# EAGLE library part POLOLU_STEP_UP_DOWN (library BOOSTER)
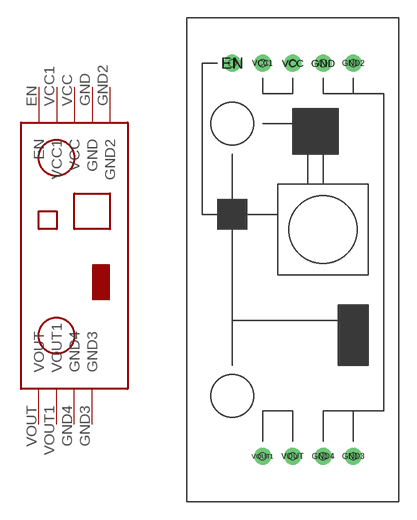
[diagram p0: symbol with the pads of POLOLU_STEP_UP_DOWN; footprint POLOLU_STEP_UP_DOWN]

Designator prefix -

## POLOLU_STEP_UP_DOWN  [POLOLU_STEP_UP_DOWN]
EN  EN
GND  GND
GND2  GND2
GND3  GND3
GND4  GND4
VCC  VCC
VCC1  VCC1
VOUT  VOUT
VOUT1  VOUT1

## Footprint POLOLU_STEP_UP_DOWN (pad centres in mm)
drill 0.8 pad 1.422: EN -17.78,6.35; GND -10.16,6.35; GND2 -7.62,6.35; GND3 -7.62,-26.67; GND4 -10.16,-26.67; VCC -12.7,6.35; VCC1 -15.24,6.35; VOUT -12.7,-26.67; VOUT1 -15.24,-26.67
hole 0.6 at -17.78,6.35
hole 0.6 at -15.24,6.35
hole 0.6 at -12.7,6.35
hole 0.6 at -10.16,6.35
hole 0.6 at -7.62,6.35
hole 0.6 at -7.62,-26.67
hole 0.6 at -10.16,-26.67
hole 0.6 at -12.7,-26.67
hole 0.6 at -15.24,-26.67